# Altium integrated library 3296W-1-250.IntLib: 1 symbol
Pins are listed as number, name and electrical type; pins without a type are passive.

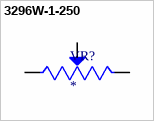
[diagram p0: symbol 3296W-1-250]

## 3296W-1-250
designator VR?
25 Ohms 0.5W, 1/2W PC Pins Through Hole Trimmer Potentiometer Cermet 25.0 Turn Top Adjustment; MP: 3296W-1-250; MF: Bourns; Package: SOT-23-5 Bourns; Price: None; Availability: In Stock; SnapEDA_Link: https://www.snapeda.com/parts/3296W-1-250/Bourns/view-part/?ref=snap; Value: *; Check_prices: https://www.snapeda.com/parts/3296W-1-250/Bourns/view-part/?ref=eda
footprint TRIM_3296W-1-250
pins: 1 CCW, 2 WIPER, 3 CW